# EAGLE library part 113990105 (library NODEMCUV2)
NodeMCU v2 - Lua based ESP8266 development kit Check availability <https://pricing.snapeda.com/parts/NodeMCU%20v2/Seeed%20Technology/view-part?ref=eda>
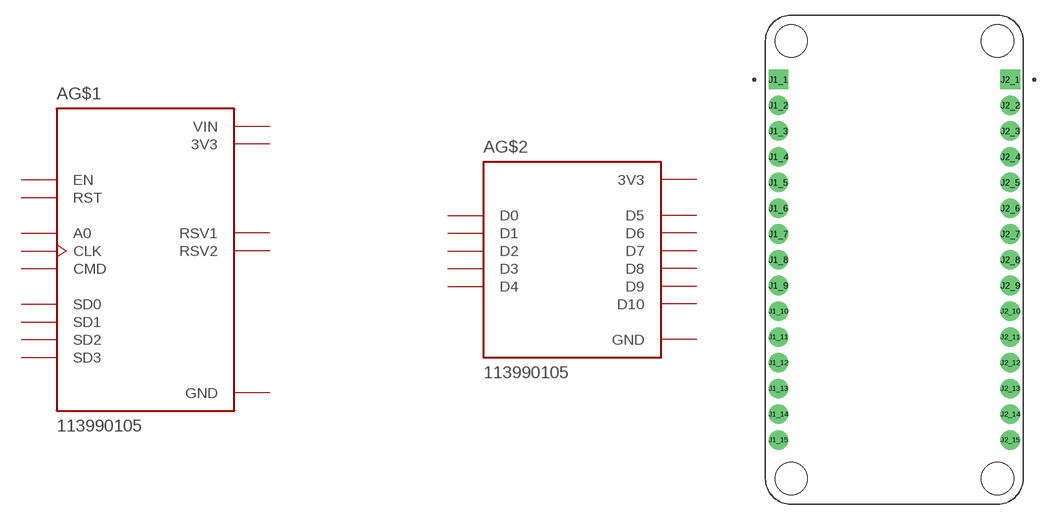
[diagram p0: symbol with the pads of SEEED_113990105; footprint SEEED_113990105]

Designator prefix A; gates G$1=113990105_IO-1 G$2=113990105_IO-2

## 113990105 (Availability: Not in stock; Description: An open-source firmware and development kit that helps you to Prototype your IOT product within a few Lua script lines; MF: Seeed Technology; MP: NodeMCU v2; Package: None; Price: None)  [SEEED_113990105]
J1_1  G$1:A0
J1_2  G$1:RSV1
J1_3  G$1:RSV2
J1_4  G$1:SD3
J1_5  G$1:SD2
J1_6  G$1:SD1
J1_7  G$1:CMD
J1_8  G$1:SD0
J1_9  G$1:CLK
J1_10  G$1:GND  pwr
J1_11  G$1:3V3  pwr
J1_12  G$1:EN  in
J1_13  G$1:RST  in
J1_14  G$1:GND  pwr
J1_15  G$1:VIN  pwr
J2_1  G$2:D0
J2_2  G$2:D1
J2_3  G$2:D2
J2_4  G$2:D3
J2_5  G$2:D4
J2_6  G$2:3V3  pwr
J2_7  G$2:GND  pwr
J2_8  G$2:D5
J2_9  G$2:D6
J2_10  G$2:D7
J2_11  G$2:D8
J2_12  G$2:D9
J2_13  G$2:D10
J2_14  G$2:GND  pwr
J2_15  G$2:3V3  pwr

## Footprint SEEED_113990105 (pad centres in mm)
drill 0.889 pad 1.93 square: J1_1 -11.43,17.78; J2_1 11.43,17.78
drill 0.889 pad 1.93: J1_2 -11.43,15.24; J1_3 -11.43,12.7; J1_4 -11.43,10.16; J1_5 -11.43,7.62; J1_6 -11.43,5.08; J1_7 -11.43,2.54; J1_8 -11.43,0; J1_9 -11.43,-2.54; J1_10 -11.43,-5.08; J1_11 -11.43,-7.62; J1_12 -11.43,-10.16; J1_13 -11.43,-12.7; J1_14 -11.43,-15.24; J1_15 -11.43,-17.78; J2_2 11.43,15.24; J2_3 11.43,12.7; J2_4 11.43,10.16; J2_5 11.43,7.62; J2_6 11.43,5.08; J2_7 11.43,2.54; J2_8 11.43,0; J2_9 11.43,-2.54; J2_10 11.43,-5.08; J2_11 11.43,-7.62; J2_12 11.43,-10.16; J2_13 11.43,-12.7; J2_14 11.43,-15.24; J2_15 11.43,-17.78
hole 3.2 at -10.16,21.59
hole 3.2 at 10.16,21.59
hole 3.2 at 10.16,-21.59
hole 3.2 at -10.16,-21.59